# Altium footprint library CAN.PcbLib: 10 footprints
Each footprint in its own frame and in the unit in brackets; x right, y up, seen from the top. Pads: shape width x height; smd on the part's side, far side on the other; paste and mask are expansions set on the pad; w line width, h text height; cw(c..) or ccw(c..) is an arc to the next point about the centre after c.
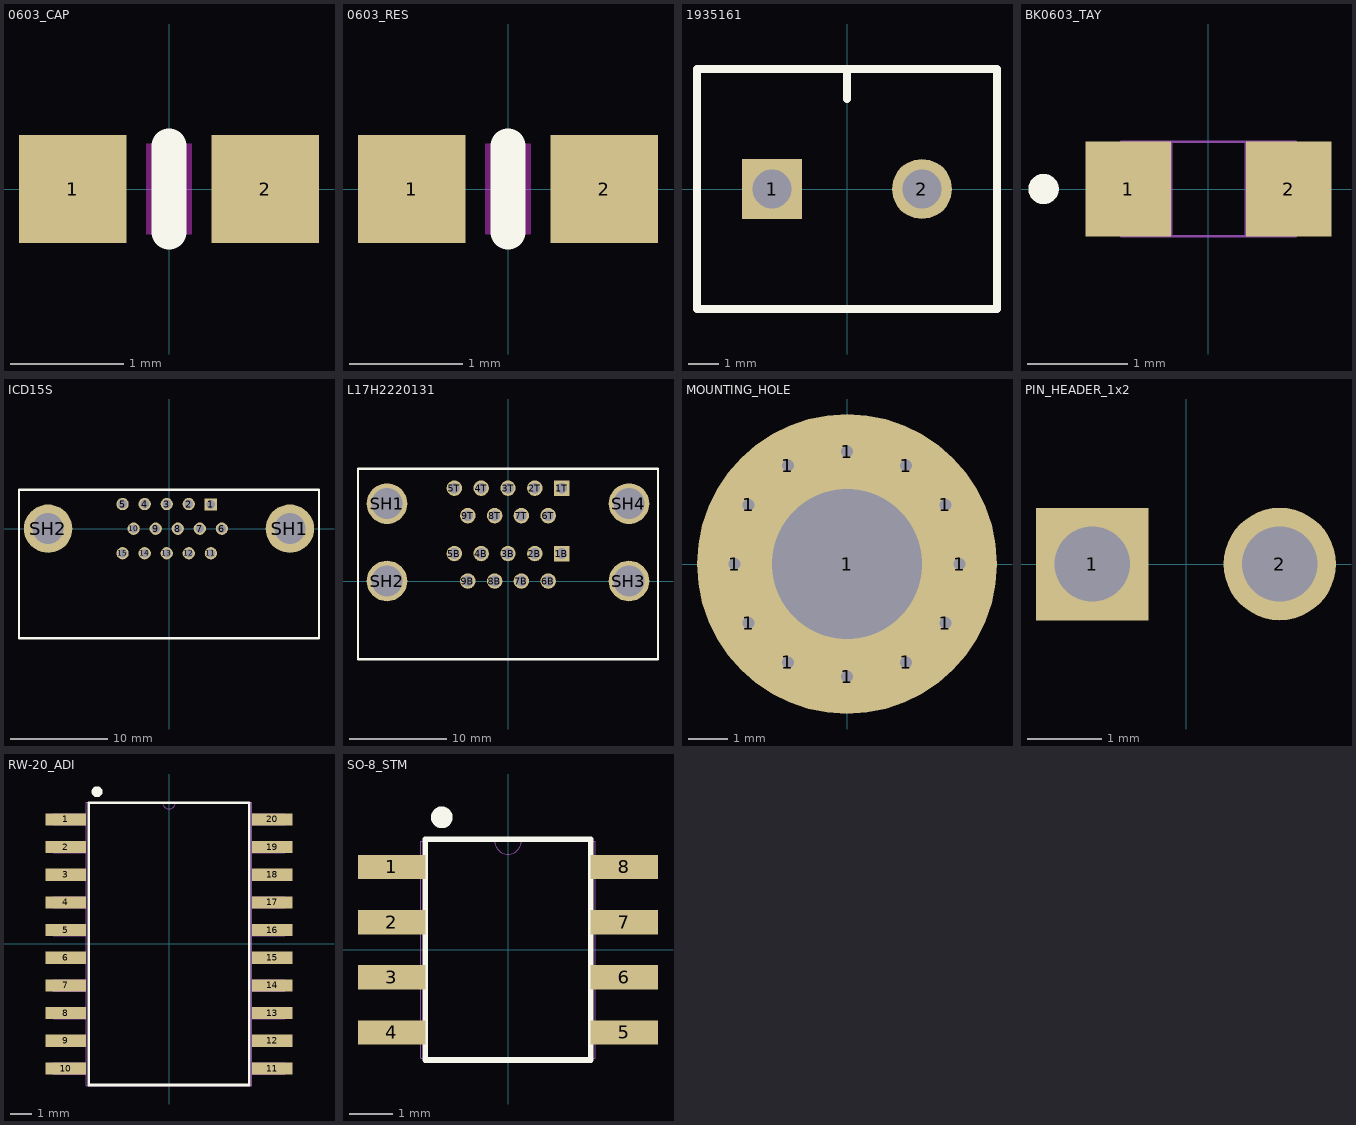
[diagram p0: the footprints below, top view; thin cyan lines are the x and y axes]

## 0603_CAP [mm]
pads (2):
  rect 0.95x0.95 smd: 1(-0.85,0) 2(0.85,0)
Top Layer keep-out:
  region: -0.2,0.4 0.2,0.4 0.2,-0.4 -0.2,-0.4
Top Overlay:
  lines w0.305: 0,-0.381 0,0.381
3D body "0603cap.step": height 0.79, standoff -0.01, extent -0.8,-0.4 0.8,0.4

## 0603_RES [mm]
pads (2):
  rect 0.95x0.95 smd: 1(-0.85,0) 2(0.85,0)
Top Layer keep-out:
  region: -0.2,0.4 0.2,0.4 0.2,-0.4 -0.2,-0.4
Top Overlay:
  lines w0.305: 0,-0.381 0,0.381
3D body "0603res.step": height 0.44, standoff -0.02, extent -0.8,-0.4 0.8,0.4

## 1935161 [mm] "TERM BLOCK PCB 2POS 5.0MM GREEN"
pads (2):
  rect 2x2 hole 1.3: 1(-2.5,0)
  round 2 hole 1.3: 2(2.5,0)
Top Overlay:
  lines w0.254: 0,3 0,4 ; -5,-4 -5,4 5,4 5,-4 -5,-4
3D body "1935161--3DModel-STEP-56544.STEP": height 11.5, standoff -3.4, extent -5.4,-4 5,5

## BK0603_TAY [mm]
pads (2):
  rect 0.856x0.95 smd: 1(-0.803,0) 2(0.803,0)
Top Overlay:
  circle w0.152: c-1.651,0 r0.076
Mechanical 1:
  circle w0.025: c-0.676,0 r0.076
  lines w0.025: -0.875,-0.475 -0.875,0.475 ; -0.875,-0.475 -0.375,-0.475 -0.375,0.475 -0.875,0.475 ; -0.875,-0.475 0.875,-0.475 ; -0.875,-0.475 -0.875,0.475 ; -0.875,0.475 0.875,0.475 ; 0.875,-0.475 0.375,-0.475 0.375,0.475 0.875,0.475 ; 0.875,-0.475 0.875,0.475 ; 0.875,-0.475 0.875,0.475
3D body "BK0603_TAY.step": height 0.95, standoff 0, extent -0.875,-0.475 0.875,0.475

## ICD15S [mm] "CONN DSUB HD RCPT 15POS R/A SLDR"
pads (17):
  rect 1.27x1.27 hole 0.9: 1(4.305,2.5)
  round 1.27 hole 0.9: 2(2.045,2.54) 3(-0.235,2.54) 4(-2.515,2.54) 5(-4.795,2.54) 6(5.465,0) 7(3.185,0) 8(0.905,0) 9(-1.375,0) 10(-3.655,0) 11(4.325,-2.54) 12(2.045,-2.54) 13(-0.235,-2.54) 14(-2.515,-2.54) 15(-4.795,-2.54)
  round 5 hole 3.2: SH1(12.495,0) SH2(-12.495,0)
Top Overlay:
  lines w0.254: -15.5,-11.3 -15.5,4 15.5,4 15.5,-11.3 -15.5,-11.3
3D body "sicd15s13e6gx00lf.stp": height 12.65, standoff -3.1, extent -15.5,-17.58 15.5,4

## L17H2220131 [mm]
pads (22):
  rect 1.6x1.6 hole 1.1: 1B(5.54,2.84) 1T(5.54,9.6)
  round 1.6 hole 1.1: 2B(2.77,2.84) 2T(2.77,9.6) 3B(0,2.84) 3T(0,9.6) 4B(-2.77,2.84) 4T(-2.77,9.6) 5B(-5.54,2.84) 5T(-5.54,9.6) 6B(4.155,0) 6T(4.155,6.76) 7B(1.385,0) 7T(1.385,6.76) 8B(-1.385,0) 8T(-1.385,6.76) 9B(-4.155,0) 9T(-4.155,6.76)
  round 4.2 hole 3.2: SH1(-12.5,8) SH2(-12.5,0) SH3(12.5,0) SH4(12.5,8)
Top Overlay:
  lines w0.254: -15.5,-8.08 -15.5,11.6 15.5,11.6 15.5,-8.08 -15.5,-8.08
3D body "L17H2220131--3DModel-STEP-56544.STEP": height 31.67, standoff -3.63, extent -15.405,-13.8 15.405,11.6

## MOUNTING_HOLE [mil]
pads (13):
  round 30 hole 12: 1(-112.5,0) 1(-98.43,-59.06) 1(-98.43,59.06) 1(-59.06,-98.43) 1(-59.06,98.43) 1(0,-112.5) 1(0,112.5) 1(59.06,-98.43) 1(59.06,98.43) 1(98.43,-59.06) 1(98.43,59.06) 1(112.5,0)
  round 300 hole 150: 1(0,0)

## PIN_HEADER_1x2 [mil]
pads (2):
  rect 60x60 hole 40.16: 1(-50,0)
  round 60 hole 40.16: 2(50,0)

## RW-20_ADI [mil]
pads (20):
  rect 74x22 smd: 1(-186.5,225) 2(-186.5,175) 3(-186.5,125) 4(-186.5,75) 5(-186.5,25) 6(-186.5,-25) 7(-186.5,-75) 8(-186.5,-125) 9(-186.5,-175) 10(-186.5,-225) 11(186.5,-225) 12(186.5,-175) 13(186.5,-125) 14(186.5,-75) 15(186.5,-25) 16(186.5,25) 17(186.5,75) 18(186.5,125) 19(186.5,175) 20(186.5,225)
Top Overlay:
  circle w9.84: c-130,275 r4.92
  lines w5: -145,-255 145,-255 145,255 -145,255 -145,-255
Mechanical 1:
  lines w1: -12,256 ccw(c0,256) 12,256 ; -209.5,-235 -209.5,-215 -149.5,-215 -149.5,-235 -209.5,-235 ; -209.5,-185 -209.5,-165 -149.5,-165 -149.5,-185 -209.5,-185 ; -209.5,-135 -209.5,-115 -149.5,-115 -149.5,-135 -209.5,-135 ; -209.5,-85 -209.5,-65 -149.5,-65 -149.5,-85 -209.5,-85 ; -209.5,-35 -209.5,-15 -149.5,-15 -149.5,-35 -209.5,-35 ; -209.5,15 -209.5,35 -149.5,35 -149.5,15 -209.5,15 ; -209.5,65 -209.5,85 -149.5,85 -149.5,65 -209.5,65 ; -209.5,115 -209.5,135 -149.5,135 -149.5,115 -209.5,115 ; -209.5,165 -209.5,185 -149.5,185 -149.5,165 -209.5,165 ; -209.5,215 -209.5,235 -149.5,235 -149.5,215 -209.5,215 ; -149.5,-256 149.5,-256 149.5,256 -149.5,256 -149.5,-256 ; 149.5,-235 149.5,-215 209.5,-215 209.5,-235 149.5,-235 ; 149.5,-185 149.5,-165 209.5,-165 209.5,-185 149.5,-185 ; 149.5,-135 149.5,-115 209.5,-115 209.5,-135 149.5,-135 ; 149.5,-85 149.5,-65 209.5,-65 209.5,-85 149.5,-85 ; 149.5,-35 149.5,-15 209.5,-15 209.5,-35 149.5,-35 ; 149.5,15 149.5,35 209.5,35 209.5,15 149.5,15 ; 149.5,65 149.5,85 209.5,85 209.5,65 149.5,65 ; 149.5,115 149.5,135 209.5,135 209.5,115 149.5,115 ; 149.5,165 149.5,185 209.5,185 209.5,165 149.5,165 ; 149.5,215 149.5,235 209.5,235 209.5,215 149.5,215
3D body "RW-20_ADI.step": height 104.09, standoff 0, extent -209.48,-255.98 209.49,255.99

## SO-8_STM [mil]
pads (8):
  rect 61x22 smd: 1(-105.5,75) 2(-105.5,25) 3(-105.5,-25) 4(-105.5,-75) 5(105.5,-75) 6(105.5,-25) 7(105.5,25) 8(105.5,75)
Top Overlay:
  circle w9.84: c-60,120 r4.92
  lines w5: -75,-100 -75,100 75,100 75,-100 -75,-100
Mechanical 1:
  lines w1: -12,98.5 ccw(c0,98.5) 12,98.5 ; -122,-85 -122,-65 -79,-65 -79,-85 -122,-85 ; -122,-35 -122,-15 -79,-15 -79,-35 -122,-35 ; -122,15 -122,35 -79,35 -79,15 -122,15 ; -122,65 -122,85 -79,85 -79,65 -122,65 ; -79,-98.5 79,-98.5 79,98.5 -79,98.5 -79,-98.5 ; 79,-85 79,-65 122,-65 122,-85 79,-85 ; 79,-35 79,-15 122,-15 122,-35 79,-35 ; 79,15 79,35 122,35 122,15 79,15 ; 79,65 79,85 122,85 122,65 79,65
3D body "SO-8_STM.step": height 69.09, standoff 0, extent -122,-98.49 122.01,98.51